# Altium footprint library Libreria_Borxo_Pcb.PcbLib: 38 footprints (part 1 of 3)
Each footprint in its own frame and in the unit in brackets; x right, y up, seen from the top. Pads: shape width x height; smd on the part's side, far side on the other; paste and mask are expansions set on the pad; w line width, h text height; cw(c..) or ccw(c..) is an arc to the next point about the centre after c.
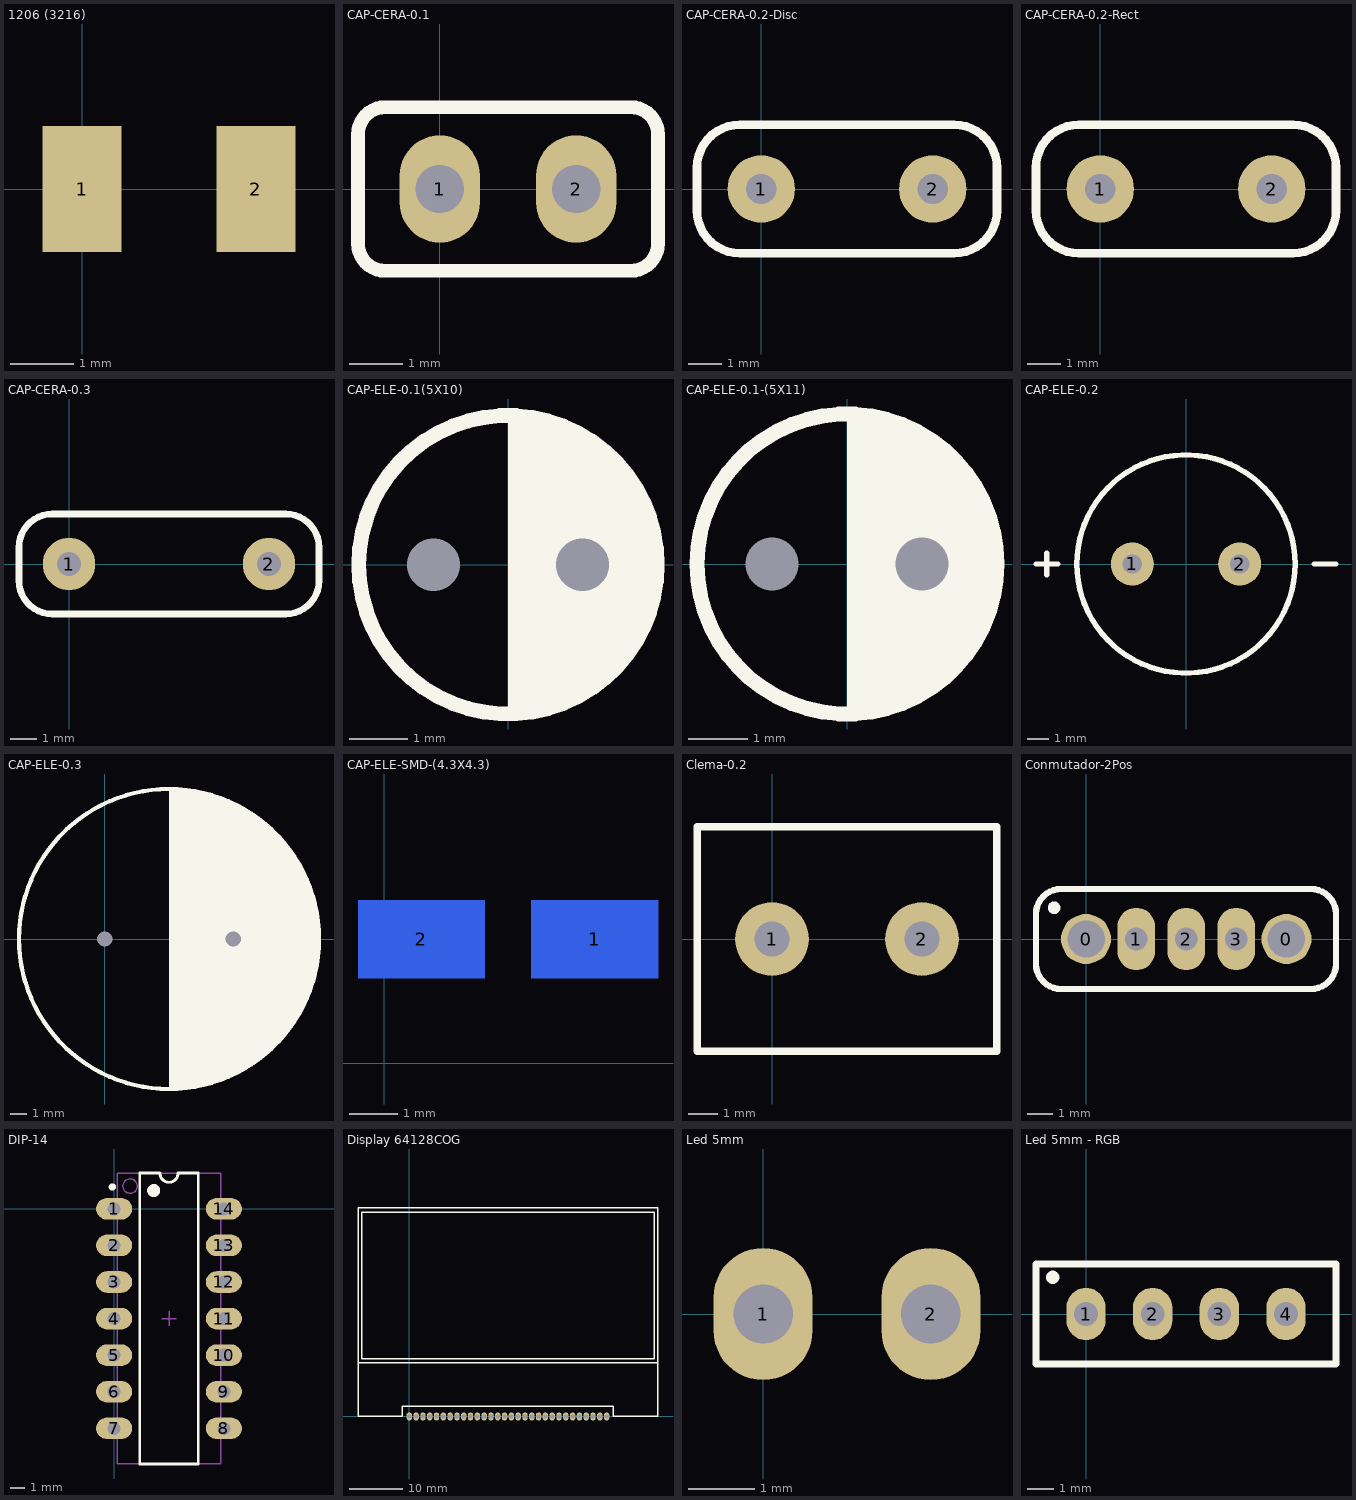
[diagram p0: the footprints below, top view; thin cyan lines are the x and y axes]

## 1206 (3216) [mm]
pads (2):
  rect 1.25x2 smd mask+0.2: 1(0,0) 2(2.75,0)
3D body "RESISTOR 1206.STEP": height 0.53, standoff -0.03, extent -0.25,-0.805 2.95,0.855

## CAP-CERA-0.1 [mm] "Radial Cap, Thru-Hole; 2 Leads; 0.1 in Pin Spacing"
pads (2):
  oval 1.5x2 hole 0.9 mask+0.2: 1(0,0) 2(2.54,0)
Top Overlay:
  lines w0.254: -1.524,-1.016 ccw(c-1.016,-1.016) -1.016,-1.524 3.556,-1.524 ccw(c3.556,-1.016) 4.064,-1.016 4.064,1.016 ccw(c3.556,1.016) 3.556,1.524 -1.016,1.524 ccw(c-1.016,1.016) -1.524,1.016 -1.524,-1.016

## CAP-CERA-0.2-Disc [mm] "Radial Cap, Thru-Hole; 2 Leads; 0.2 in Pin Spacing"
pads (2):
  round 2 hole 0.9 mask+0.2: 1(0,0) 2(5.08,0)
Top Overlay:
  lines w0.254: -1.905,-0.635 ccw(c-0.635,-0.635) -0.635,-1.905 5.715,-1.905 ccw(c5.715,-0.635) 6.985,-0.635 6.985,0.635 ccw(c5.715,0.635) 5.715,1.905 -0.635,1.905 ccw(c-0.635,0.635) -1.905,0.635 -1.905,-0.635
3D body "User Library-Cer-Cap2_5 (5x1_5).step": height 5, standoff -3, extent -0.354,-1.583 5.432,1.593

## CAP-CERA-0.2-Rect [mm] "Radial Cap, Thru-Hole; 2 Leads; 0.2 in Pin Spacing"
pads (2):
  round 2 hole 0.9 mask+0.2: 1(0,0) 2(5.08,0)
Top Overlay:
  lines w0.254: -1.905,-0.635 ccw(c-0.635,-0.635) -0.635,-1.905 5.715,-1.905 ccw(c5.715,-0.635) 6.985,-0.635 6.985,0.635 ccw(c5.715,0.635) 5.715,1.905 -0.635,1.905 ccw(c-0.635,0.635) -1.905,0.635 -1.905,-0.635
3D body "User Library-Cap-Cer-Rect(0.2in).step": height 2.3, standoff -6.74, extent -0.21,-1.27 5.29,1.23

## CAP-CERA-0.3 [mm] "Radial Cap, Thru-Hole; 2 Leads; 0.3 in Pin Spacing"
pads (2):
  round 2 hole 0.9 mask+0.2: 1(0,0) 2(7.62,0)
Top Overlay:
  lines w0.254: -1.905,-0.635 ccw(c-0.635,-0.635) -0.635,-1.905 8.255,-1.905 ccw(c8.255,-0.635) 9.525,-0.635 9.525,0.635 ccw(c8.255,0.635) 8.255,1.905 -0.635,1.905 ccw(c-0.635,0.635) -1.905,0.635 -1.905,-0.635
3D body "User Library-Ceramic (00.3in).step": height 8.23, standoff -4.96, extent -0.191,-1.195 7.811,1.198

## CAP-ELE-0.1(5X10) [mm] "Radial Cap, Thru-Hole; 2 Leads; 0.1 in Pin Spacing"
pads (2):
  round 0 / inner round 0 / far side oval 1.5x2 hole 0.9 mask+0.2: 1(-1.27,0) 2(1.27,0)
Top Overlay:
  circle w0.254: c0,0 r2.54
  region: 0,2.54 0,-2.54 0.635,-2.54 0.813,-2.362 1.041,-2.362 1.219,-2.184 1.346,-2.184 1.549,-1.981 1.575,-1.981 1.88,-1.676 1.93,-1.676 1.93,-1.524 2.311,-1.143 2.311,-0.813 2.515,-0.61 2.515,-0.076 2.54,-0.051 2.515,-0.025 2.515,0.635 2.337,0.813 2.337,1.219 1.829,1.727 1.829,1.778 1.803,1.778 1.245,2.337 0.787,2.337 0.559,2.565 0.025,2.565
3D body "User Library-Cap-El(5x10-0,2in).STEP": height 10.51, standoff -3, extent -2.505,-2.46 2.505,2.54

## CAP-ELE-0.1-(5X11) [mm] "Radial Cap, Thru-Hole; 2 Leads; 0.1 in Pin Spacing"
pads (2):
  round 0 / inner round 0 / far side oval 1.5x2 hole 0.9 mask+0.2: 1(-1.27,0) 2(1.27,0)
Top Overlay:
  circle w0.254: c0,0 r2.54
  region: 0,2.54 0,-2.54 0.635,-2.54 0.889,-2.286 1.143,-2.286 1.27,-2.159 1.397,-2.159 2.286,-1.27 2.286,-1.016 2.413,-0.889 2.413,-0.635 2.54,-0.508 2.54,0.508 2.413,0.635 2.413,1.016 2.159,1.27 2.159,1.397 1.905,1.651 1.905,1.778 1.778,1.778 1.016,2.413 0.508,2.413 0.381,2.54
3D body "User Library-CE_R100_D200_H460.step": height 13.1, standoff -2, extent -2.541,-2.58 2.537,2.5

## CAP-ELE-0.2 [mm] "Capacitor; 2 Leads;0.2 in Pin Spacing"
height 12
pads (2):
  round 2 hole 0.9 mask+0.2: 1(-2.5,0) 2(2.5,0)
Top Overlay:
  circle w0.254: c0,0 r5.08
  lines w0.254: -6.985,0 -5.969,0 ; -6.477,-0.508 -6.477,0.508 ; 5.969,0 6.985,0
3D body "User Library-Cap electro 10x12_5x5_0mm.step": height 13.03, standoff -3.48, extent -5.025,-5.025 5.026,5.026

## CAP-ELE-0.3 [mm] "Radial Cap, Thru-Hole; 2 Leads; 0.3 in Pin Spacing"
pads (2):
  round 0 / inner round 0 / far side round 2 hole 0.9 mask+0.2: 1(0,0) 2(7.62,0)
Top Overlay:
  circle w0.254: c3.81,0 r8.89
  region: 3.81,8.89 3.81,-8.89 4.572,-8.89 4.699,-8.763 5.334,-8.763 5.461,-8.636 5.969,-8.636 6.096,-8.509 6.604,-8.509 6.858,-8.255 7.239,-8.255 7.493,-8.001 7.874,-8.001 8.255,-7.62 8.509,-7.62 8.763,-7.366 8.89,-7.366 9.271,-6.985 9.398,-6.985 10.795,-5.588 10.795,-5.334 11.43,-4.699 11.43,-4.572 11.684,-4.318 11.684,-3.937 12.065,-3.556 12.065,-3.302 12.192,-3.175 12.192,-2.794 12.446,-2.54 12.446,-2.032 12.573,-1.905 12.573,-1.524 12.7,-1.397 12.7,1.016 12.573,1.143 12.573,1.651 12.446,1.778 12.446,2.286 12.319,2.413 12.319,2.921 11.938,3.302 11.938,3.683 11.684,3.937 11.684,4.191 11.43,4.445 11.303,4.826 11.049,5.207 10.922,5.461 10.795,5.461 10.541,5.715 10.541,5.842 9.144,7.239 8.763,7.366 8.382,7.747 8.001,7.747 7.62,8.128 7.239,8.128 6.985,8.382 6.35,8.382 6.096,8.636 5.715,8.636 5.588,8.763 4.953,8.763 4.826,8.89
3D body "User Library-Panasonic 16V 4700uF 16v FC Motherboard Capacitors 18X25mm LOW ESR.step": height 25.05, standoff -3.6, extent -6.486,-10.551 14.665,10.552

## CAP-ELE-SMD-(4.3X4.3) [mm]
pads (2):
  rect 2.6x1.6 smd far side mask+0.2: 1(4.318,2.54) 2(0.762,2.54)
Bottom Overlay:
  lines w0.254: 0.381,1.397 0.381,0.399 4.234,0.399 4.681,0.846 4.681,1.397 ; 0.381,3.701 0.381,4.699 4.216,4.699 4.681,4.234 4.681,3.701
  text "+" at 5.08,4.47 h1.52
3D body "User Library-CAP-ELE-(4_33)SMD.step": height 5.4, standoff 0, extent 0.219,0.39 4.819,4.691

## Clema-0.2 [mm]
pads (2):
  round 2.5 hole 1.2 mask+0.2: 1(0,0) 2(5.08,0)
Top Overlay:
  lines w0.254: -2.54,-3.81 -2.54,3.81 7.62,3.81 7.62,-3.81 -2.54,-3.81
3D body "clema-2.stp": height 10, standoff -4, extent -3.01,-3.79 8.09,3.81

## Conmutador-2Pos [mm] "MFP113D-Knitter-Switch"
pads (5):
  round 2 hole 1.5 mask+0.2: 0(0,0) 0(8.02,0)
  oval 1.5x2.5 hole 0.9 mask+0.2: 1(2.01,0) 2(4.01,0) 3(6.01,0)
Top Overlay:
  circle w0.25: c-1.275,1.25 r0.125
  lines w0.254: -2,-1 ccw(c-1,-1) -1,-2 9,-2 ccw(c9,-1) 10,-1 10,1 ccw(c9,1) 9,2 -1,2 ccw(c-1,1) -2,1 -2,-1

## DIP-14 [mm] "DIP; 14 Leads; Row Spacing 7.62 mm; Pitch 2.54 mm"
height 5.08
pads (14):
  oval 2.5x1.5 hole 0.9 mask+0.2: 1(0,0) 2(0,-2.54) 3(0,-5.08) 4(0,-7.62) 5(0,-10.16) 6(0,-12.7) 7(0,-15.24) 8(7.62,-15.24) 9(7.62,-12.7) 10(7.62,-10.16) 11(7.62,-7.62) 12(7.62,-5.08) 13(7.62,-2.54) 14(7.62,0)
Top Overlay:
  circle w0.25: c-0.125,1.524 r0.125
  circle w0.6: c2.748,1.27 r0.15
  lines w0.2: 1.778,-17.72 1.778,2.48 3.175,2.48 ccw(c3.81,2.48) 4.445,2.48 5.842,2.48 5.842,-17.72 1.778,-17.72
Mechanical 13:
  circle w0.1: c1.11,1.58 r0.5
  lines w0.1: 0.21,-17.72 0.21,2.48 7.41,2.48 7.41,-17.72 0.21,-17.72
Mechanical 15:
  lines w0.1: 3.31,-7.62 4.31,-7.62 ; 3.81,-8.12 3.81,-7.12
3D body: height 5.08, standoff 0, extent 0.21,-17.72 7.41,2.48

## Display 64128COG [mm] "Display- REF: 64128COG-FA-BC- Amidata"
pads (30):
  oval 1x1.5 hole 0.8 mask+0.1: 1(36.83,0) 2(35.56,0) 3(34.29,0) 4(33.02,0) 5(31.75,0) 6(30.48,0) 7(29.21,0) 8(27.94,0) 9(26.67,0) 10(25.4,0) 11(24.13,0) 12(22.86,0) 13(21.59,0) 14(20.32,0) 15(19.05,0) 16(17.78,0) 17(16.51,0) 18(15.24,0) 19(13.97,0) 20(12.7,0) 21(11.43,0) 22(10.16,0) 23(8.89,0) 24(7.62,0) 25(6.35,0) 26(5.08,0) 27(3.81,0) 28(2.54,0) 29(1.27,0) 30(0,0)
Top Overlay:
  lines w0.254: -9.58,10 46.42,10 ; -9.58,0 -1.325,0 -1.325,1.905 38.045,1.905 38.045,0 46.42,0 46.42,39 -9.58,39 -9.58,0 ; -8.89,10.795 -8.89,38.1 45.72,38.1 45.72,10.795 -8.89,10.795
3D body "Display 64128COG.STEP": height 2.37, standoff -5.71, extent -9.546,-0.157 46.454,39.134

## Led 5mm [mm]
pads (2):
  oval 1.5x2 hole 0.9 mask+0.2: 1(0,0) 2(2.54,0)
3D body "everlight-5MM-LED-BLUE.STEP": height 8.84, standoff -7.13, extent -1.684,-2.954 3.766,2.946

## Led 5mm - RGB [mm]
pads (4):
  oval 1.5x2 hole 0.9 mask+0.2: 1(0,0) 2(2.54,0) 3(5.08,0) 4(7.62,0)
Top Overlay:
  circle w0.254: c-1.27,1.397 r0.127
  lines w0.254: -1.905,-1.905 -1.905,1.905 9.525,1.905 9.525,-1.905 -1.905,-1.905